# EAGLE library part KINGBRIGHT_ACSA56 (library kingbright)
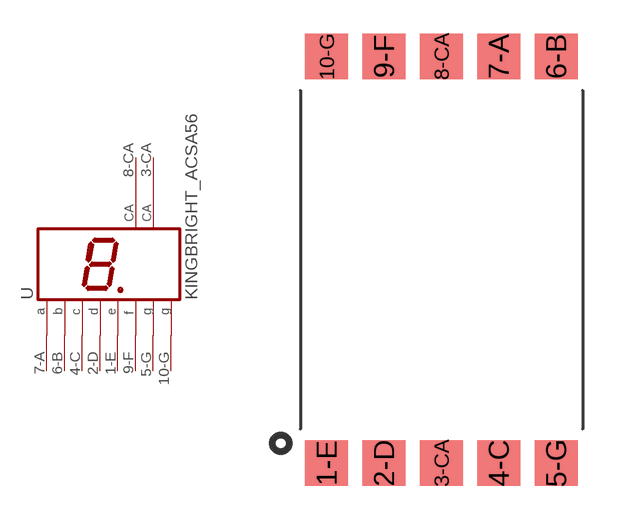
[diagram p0: symbol with the pads of 7_SEG_SMT_.56; footprint 7_SEG_SMT_.56]

Designator prefix -

## KINGBRIGHT_ACSA56  [7_SEG_SMT_.56]
1-E  E  pas
2-D  D  pas
3-CA  CA  pas
4-C  C  pas
5-G  G  pas
6-B  B  pas
7-A  A  pas
8-CA  CA  pas
9-F  F  pas
10-G  G1  pas

## Footprint 7_SEG_SMT_.56 (pad centres in mm)
smd 1.9 x 2: 1-E -5.08,-9; 2-D -2.54,-9; 3-CA 0,-9; 4-C 2.54,-9; 5-G 5.08,-9; 6-B 5.08,9; 7-A 2.54,9; 8-CA 0,9; 9-F -2.54,9; 10-G -5.08,9